# Altium footprint library 2007435-1.PcbLib: 1 footprints
Each footprint in its own frame and in the unit in brackets; x right, y up, seen from the top. Pads: shape width x height; smd on the part's side, far side on the other; paste and mask are expansions set on the pad; w line width, h text height; cw(c..) or ccw(c..) is an arc to the next point about the centre after c.
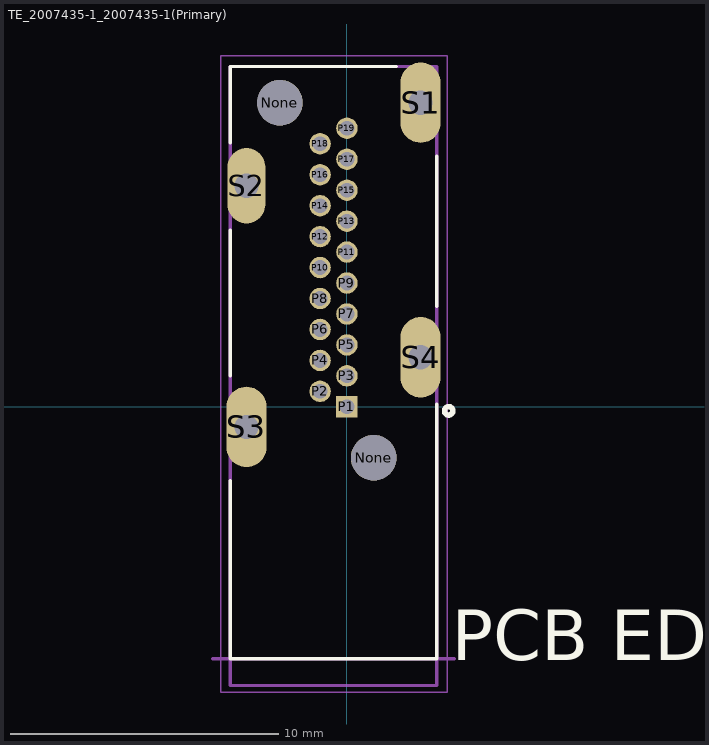
[diagram p0: the footprint, top view; thin cyan lines are the x and y axes]

## TE_2007435-1_2007435-1(Primary) [mm]
pads (25):
  round 1.7 hole 1.7 unplated: None(-2.5,11.35) None(1,-1.9)
  rect 0.8x0.8 hole 0.55: P1(0,0)
  round 0.8 hole 0.55: P2(-1,0.577) P3(0,1.155) P4(-1,1.733) P5(0,2.31) P6(-1,2.887) P7(0,3.465) P8(-1,4.042) P9(0,4.62) P10(-1,5.198) P11(0,5.775) P12(-1,6.352) P13(0,6.93) P14(-1,7.508) P15(0,8.085) P16(-1,8.662) P17(0,9.24) P18(-1,9.817) P19(0,10.395)
  oval 1.5x3 hole 0.9: S1(2.75,11.35) S3(-3.75,-0.75) S4(2.75,1.85)
  oval 1.408x2.816 hole 0.9: S2(-3.75,8.25)
Top Overlay:
  circle w0.2: c3.8,-0.15 r0.158
  lines w0.127: -4.35,-2.75 -4.35,-9.4 3.35,-9.4 3.35,0.1 ; -4.35,1.15 -4.35,6.6 ; -4.35,9.85 -4.35,12.7 1.85,12.7 ; 3.35,3.75 3.35,9.35
  text "PCB EDGE" at 3.904,-9.46 h1.88
Mechanical 1:
  lines w0: -4.2,-1.65 ccw(c-3.75,-1.65) -3.75,-2.1 ccw(c-3.75,-1.65) -3.3,-1.65 -3.3,-0.75 -3.3,0.15 ccw(c-3.75,0.15) -3.75,0.6 ccw(c-3.75,0.15) -4.2,0.15 -4.2,-0.75 -4.2,-1.65 ; -4.2,7.35 ccw(c-3.75,7.35) -3.75,6.9 ccw(c-3.75,7.35) -3.3,7.35 -3.3,8.25 -3.3,9.15 ccw(c-3.75,9.15) -3.75,9.6 ccw(c-3.75,9.15) -4.2,9.15 -4.2,8.25 -4.2,7.35 ; 2.3,0.95 ccw(c2.75,0.95) 2.75,0.5 ccw(c2.75,0.95) 3.2,0.95 3.2,1.85 3.2,2.75 ccw(c2.75,2.75) 2.75,3.2 ccw(c2.75,2.75) 2.3,2.75 2.3,1.85 2.3,0.95 ; 2.3,10.45 ccw(c2.75,10.45) 2.75,10 ccw(c2.75,10.45) 3.2,10.45 3.2,11.35 3.2,12.25 ccw(c2.75,12.25) 2.75,12.7 ccw(c2.75,12.25) 2.3,12.25 2.3,11.35 2.3,10.45
Mechanical 13:
  lines w0.127: -4.35,-10.4 3.35,-10.4 ; -4.35,-10.4 -4.35,12.7 ; -4.35,-10.4 3.35,-10.4 ; -4.35,-10.4 -4.35,12.7 ; -4.35,12.7 3.35,12.7 ; -4.35,12.7 3.35,12.7 ; 3.35,-10.4 3.35,12.7 ; 3.35,-10.4 3.35,12.7 ; -5,-9.4 4,-9.4 -5,-9.4
Mechanical 15:
  lines w0.05: -4.7,-10.65 3.75,-10.65 3.75,1.7 3.75,13.1 2.75,13.1 -4.7,13.1 -4.7,8.1 -4.7,-10.65